# EAGLE library part SBA18-11 (library digital-toy)
Kingbright SBA18-11x 45mm (1.8") digits 7seg display. Red & Green color. Common anode. 38x56mm place. 44.5mm (1.75 inch) digit height 2009 Draw by Ivan A-R <http://tuxotronic.org>. License CC-BY-SA 3.0 <http://creativecommons.org/licenses/by-sa/3.0/>
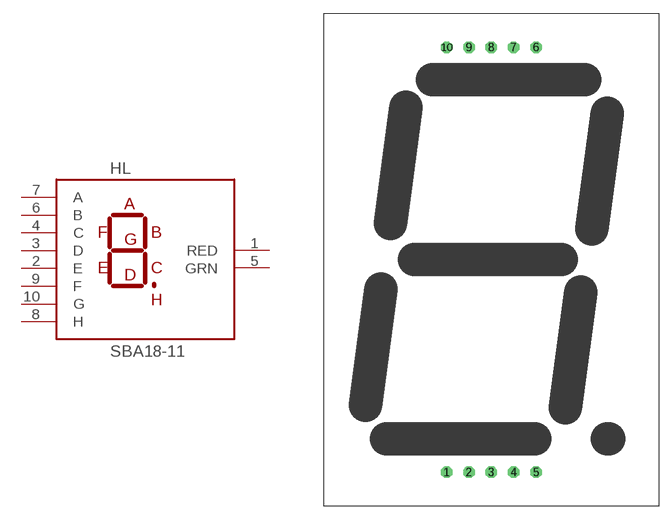
[diagram p9: symbol with the pads of S*18-11; footprint S*18-11]

Designator prefix HL

## SBA18-11EGWA  [S*18-11]
1  RED  in
2  E  in
3  D  in
4  C  in
5  GRN  in
6  B  in
7  A  in
8  H  in
9  F  in
10  G  in

## Footprint S*18-11 (pad centres in mm)
Kingbright 45mm (1.8") single 7SEG numeric LED display
drill 0.8 octagon: 1 -5.08,-24.13; 2 -2.54,-24.13; 3 0,-24.13; 4 2.54,-24.13; 5 5.08,-24.13; 6 5.08,24.13; 7 2.54,24.13; 8 0,24.13; 9 -2.54,24.13; 10 -5.08,24.13